# EAGLE library part SR1712F-0108-20F0A-N9-N-027 (library SamacSys_Parts)
Rotary Switches 1 POLE 8 POS D SHAFT Source: Datasheet <http://www.taiwanalpha.com/english/p_e_141.htm>
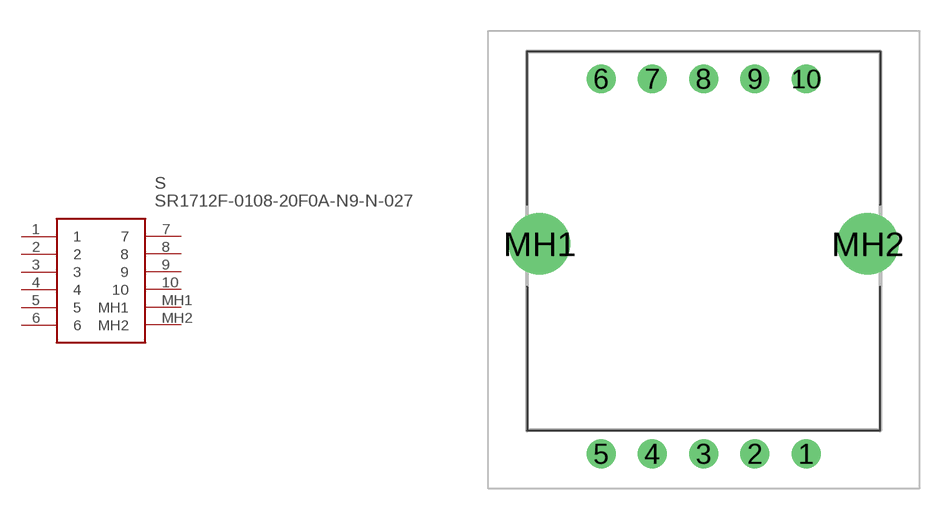
[diagram p0: symbol with the pads of SR1712F010820F0AN9N027; footprint SR1712F010820F0AN9N027]

Designator prefix S

## SR1712F-0108-20F0A-N9-N-027 (DESCRIPTION: Rotary Switches 1 POLE 8 POS D SHAFT; HEIGHT: 27mm; MANUFACTURER_NAME: Alpha (Taiwan); MANUFACTURER_PART_NUMBER: SR1712F-0108-20F0A-N9-N-027; MOUSER_PART_NUMBER: 105-SR1712F-18NS; MOUSER_PRICE-STOCK: https://www.mouser.com/Search/Refine.aspx?Keyword=105-SR1712F-18NS)  [SR1712F010820F0AN9N027]
1  1
2  2
3  3
4  4
5  5
6  6
7  7
8  8
9  9
10  10
MH1  MH1
MH2  MH2

## Footprint SR1712F010820F0AN9N027 (pad centres in mm)
SR1712F-0108-20F0A-N9-N-027
drill 0.9 pad 1.4: 1 5,-9.475; 2 2.5,-9.475; 3 0,-9.475; 4 -2.5,-9.475; 5 -5,-9.475; 6 -5,8.825; 7 -2.5,8.825; 8 0,8.825; 9 2.5,8.825; 10 5,8.825
drill 2 pad 3: MH1 -8,0.775; MH2 8,0.775